# Altium footprint library INF-PG-TO263-7-1M.PcbLib: 1 footprints
Each footprint in its own frame and in the unit in brackets; x right, y up, seen from the top. Pads: shape width x height; smd on the part's side, far side on the other; paste and mask are expansions set on the pad; w line width, h text height; cw(c..) or ccw(c..) is an arc to the next point about the centre after c.
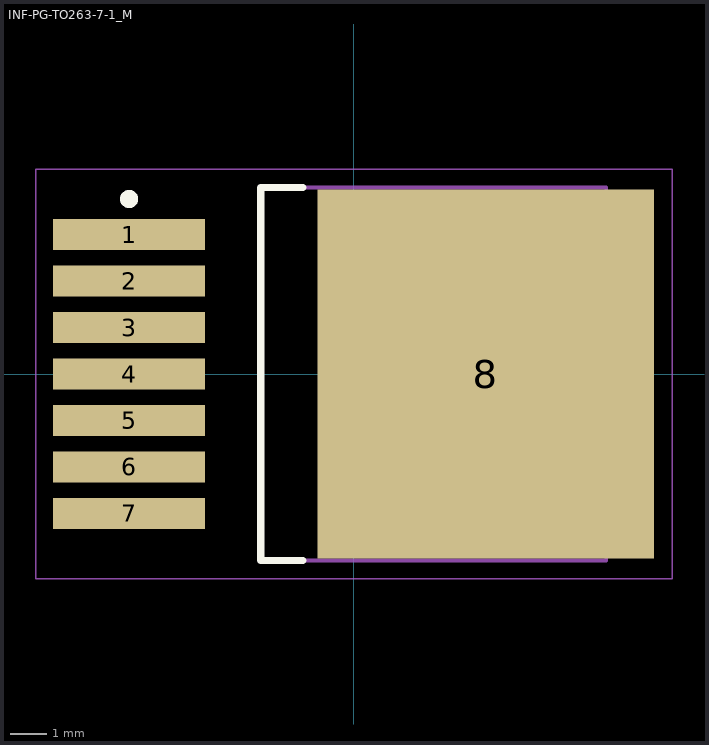
[diagram p0: the footprint, top view; thin cyan lines are the x and y axes]

## INF-PG-TO263-7-1_M [mm] "DPAK, 8-Leads, Body 10x9.25mm, Pitch 1.27mm, IPC Low Density"
height 4.4
pads (8):
  rect 4.15x0.85 smd: 1(-6.15,3.81) 2(-6.15,2.54) 3(-6.15,1.27) 4(-6.15,0) 5(-6.15,-1.27) 6(-6.15,-2.54) 7(-6.15,-3.81)
  rect 9.2x10.1 smd: 8(3.6,0)
Top Overlay:
  circle w0.25: c-6.15,4.785 r0.125
  lines w0.2: -1.4,-5.1 -2.55,-5.1 -2.55,5.1 -1.4,5.1
Mechanical 13:
  lines w0.1: -2.55,-5.1 -2.55,5.1 6.9,5.1 6.9,-5.1 -2.55,-5.1
Mechanical 15:
  lines w0.05: -8.7,-5.6 -8.7,5.6 8.7,5.6 8.7,-5.6 -8.7,-5.6
  lines w0.1: -0.5,0 0.5,0 ; 0,-0.5 0,0.5
3D body: height 4.4, standoff 0.1, extent -2.55,-5.1 6.9,5.1